# Altium footprint library ELCAP_HOR_D13_H21_P5_MIR.PcbLib: 1 footprints
Each footprint in its own frame and in the unit in brackets; x right, y up, seen from the top. Pads: shape width x height; smd on the part's side, far side on the other; paste and mask are expansions set on the pad; w line width, h text height; cw(c..) or ccw(c..) is an arc to the next point about the centre after c.
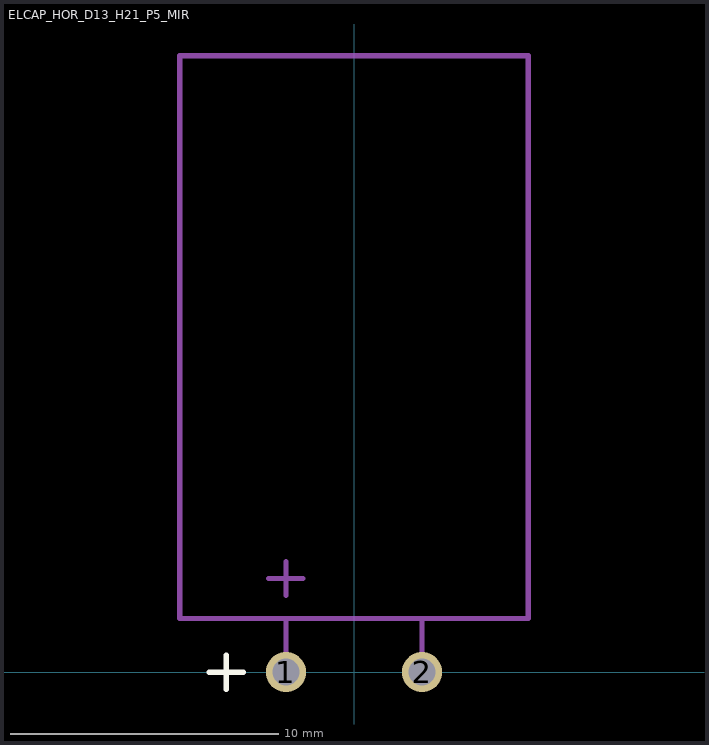
[diagram p0: the footprint, top view; thin cyan lines are the x and y axes]

## ELCAP_HOR_D13_H21_P5_MIR [mm]
pads (2):
  round 1.5 hole 1: 1(-2.54,0) 2(2.54,0)
Top Overlay:
  lines w0.2: -5.397,0 -4.127,0 ; -4.763,-0.635 -4.763,0.635
TopAssy:
  lines w0.2: -3.175,3.492 -1.905,3.492 ; -2.54,0 -2.54,1.905 ; -2.54,2.857 -2.54,4.127 ; 2.54,0 2.54,1.905 ; -6.5,2 -6.5,23 6.5,23 6.5,2 -6.5,2
3D body: height 6.65, standoff 6.05, extent 2.241,0 2.839,2
3D body: height 6.65, standoff 6.05, extent -2.839,0 -2.241,2
3D body: height 6.5, standoff 0, extent 2.24,-0.297 2.839,0.3
3D body: height 6.5, standoff 0, extent -2.84,-0.297 -2.241,0.3
3D body: height 13, standoff 0, extent -6.5,2.032 6.5,23.032